# Altium footprint library EPC_2017Q3.pcblib: 23 footprints (part 1 of 2)
Each footprint in its own frame and in the unit in brackets; x right, y up, seen from the top. Pads: shape width x height; smd on the part's side, far side on the other; paste and mask are expansions set on the pad; w line width, h text height; cw(c..) or ccw(c..) is an arc to the next point about the centre after c.
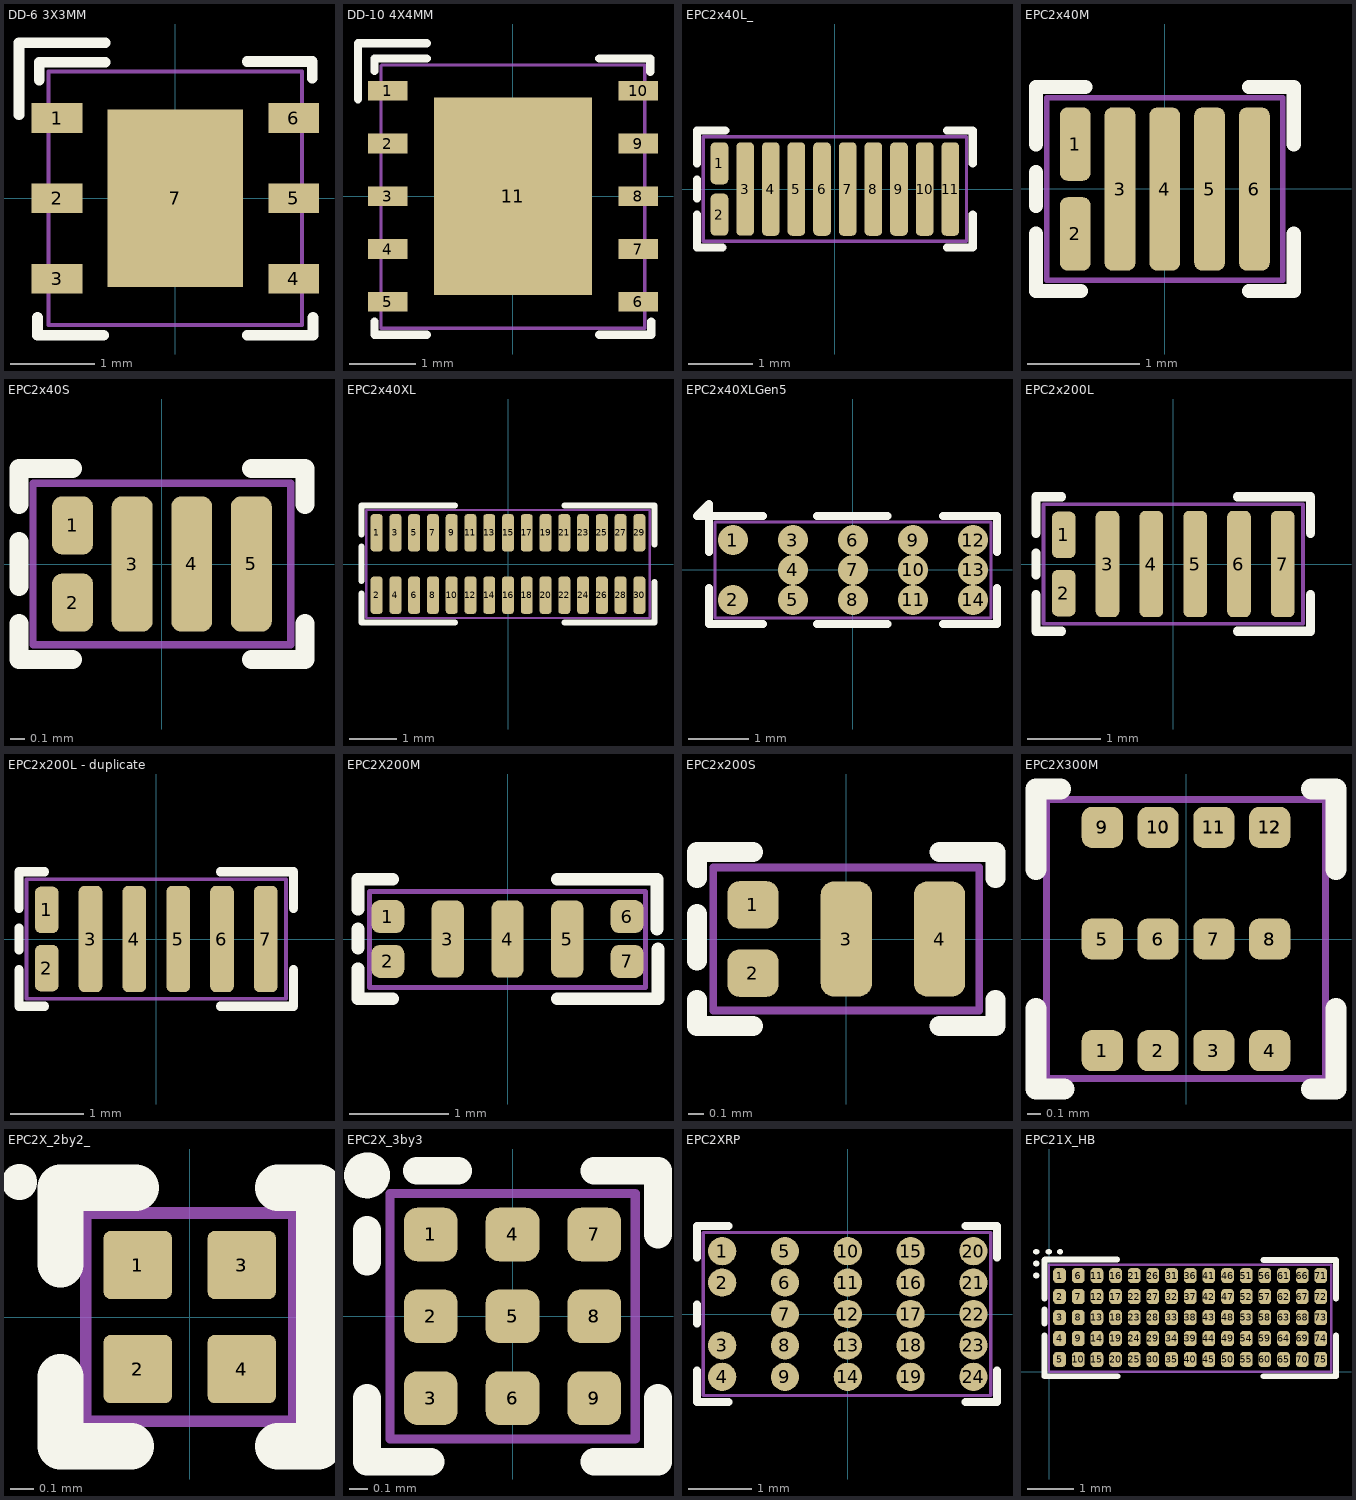
[diagram p0: the footprints below, top view; thin cyan lines are the x and y axes]

## DD-6 3X3MM [mm]
height 0.9
pads (7):
  rect 0.6x0.35 smd paste-0.025 mask+0.07: 1(-1.4,0.95) 2(-1.4,0) 3(-1.4,-0.95) 4(1.4,-0.95) 5(1.4,0) 6(1.4,0.95)
  rect 1.6x2.1 smd paste-0.1 mask+0.07: 7(0,0)
Top Overlay:
  lines w0.127: -1.85,0.99 -1.85,1.84 -0.83,1.84 ; -1.63,-1.41 -1.63,-1.62 -0.85,-1.62 ; -1.61,1.4 -1.61,1.61 -0.83,1.61 ; 0.85,-1.62 1.63,-1.62 1.63,-1.41 ; 0.85,1.62 1.62,1.62 1.62,1.42
Mechanical 13:
  lines w0.05: -1.5,-1.5 1.5,-1.5 1.5,1.5 -1.5,1.5 -1.5,-1.5
3D body: height 0.8, standoff 0.1, extent -1.5,-1.51 1.5,1.5

## DD-10 4X4MM [mm]
height 1
pads (11):
  rect 0.6x0.3 smd paste-0.025 mask+0.07: 1(-1.9,1.6) 2(-1.9,0.8) 3(-1.9,0) 4(-1.9,-0.8) 5(-1.9,-1.6) 6(1.9,-1.6) 7(1.9,-0.8) 8(1.9,0) 9(1.9,0.8) 10(1.9,1.6)
  rect 2.4x3 smd paste-0.1 mask+0.07: 11(0,0)
Top Overlay:
  lines w0.127: -2.35,1.47 -2.35,2.32 -1.31,2.32 ; -2.1,-1.9 -2.1,-2.1 -1.31,-2.1 ; -2.1,1.9 -2.1,2.09 -1.31,2.09 ; 1.31,-2.1 2.1,-2.1 2.1,-1.9 ; 1.31,2.09 2.08,2.09 2.08,1.89
Mechanical 13:
  lines w0.05: -2,-2 2,-2 2,1.99 -1.99,1.99 -2,1.98 -2,-2
3D body: height 0.9, standoff 0.1, extent -2,-2 2,2

## EPC2x40L_ [mm]
height 0.8
pads (22):
  rrect50% 0.275x0.655 smd paste-0.048 mask-0.275: 1(-1.8,0.401) 2(-1.8,-0.401)
  rrect50% 0.275x1.457 smd paste-0.048 mask-0.275: 3(-1.4,0) 4(-1,-0.001) 5(-0.6,-0.001) 6(-0.2,-0.001) 7(0.2,-0.001) 8(0.6,-0.001) 9(1,-0.001) 10(1.4,-0.001) 11(1.8,-0.001)
  oval 0.18x0.56 on Top Solder: ""(-1.8,-0.4) ""(-1.8,0.4)
  oval 0.18x1.362 on Top Solder: ""(-1.4,0) ""(-1,0) ""(-0.6,0) ""(-0.2,0) ""(0.2,0) ""(0.6,0) ""(1,0) ""(1.4,0) ""(1.8,0)
Top Overlay:
  lines w0.127: -2.15,-0.4 -2.15,-0.91 -1.75,-0.91 ; -2.15,-0.15 -2.15,0.15 ; -2.15,0.4 -2.15,0.91 -1.71,0.91 ; 1.75,-0.91 2.15,-0.91 2.15,-0.4 ; 1.75,0.91 2.15,0.91 2.15,0.4
Mechanical 13:
  lines w0.05: -2.052,-0.816 2.053,-0.816 2.053,0.816 -2.052,0.816 -2.052,-0.816
3D body: height 0.81, standoff 0.1, extent -2.052,-0.816 2.053,0.816

## EPC2x40M [mm]
height 0.8
pads (12):
  rrect50% 0.275x0.655 smd paste-0.048 mask-0.275: 1(-0.8,0.401) 2(-0.8,-0.401)
  rrect50% 0.275x1.457 smd paste-0.048 mask-0.275: 3(-0.4,0) 4(0,-0.001) 5(0.4,-0.001) 6(0.8,-0.001)
  oval 0.18x0.56 on Top Solder: ""(-0.8,-0.4) ""(-0.8,0.4)
  oval 0.18x1.362 on Top Solder: ""(-0.4,0) ""(0,0) ""(0.4,0) ""(0.8,0)
Top Overlay:
  lines w0.127: -1.15,-0.4 -1.15,-0.91 -0.75,-0.91 ; -1.15,-0.15 -1.15,0.15 ; -1.15,0.4 -1.15,0.91 -0.71,0.91 ; 0.751,-0.91 1.151,-0.91 1.151,-0.4 ; 0.751,0.91 1.151,0.91 1.151,0.4
Mechanical 13:
  lines w0.05: -1.052,-0.816 -1.052,0.816 1.054,0.816 1.054,-0.816 -1.052,-0.816
3D body: height 0.81, standoff 0.1, extent -1.052,-0.816 1.05,0.816

## EPC2x40S [mm]
height 0.8
pads (10):
  rrect50% 0.275x0.391 smd paste-0.048 mask-0.275: 1(-0.6,0.259) 2(-0.6,-0.259)
  rrect50% 0.275x0.909 smd paste-0.048 mask-0.275: 3(-0.2,0) 4(0.2,0) 5(0.6,0)
  oval 0.18x0.296 on Top Solder: ""(-0.6,-0.259) ""(-0.6,0.259)
  oval 0.18x0.814 on Top Solder: ""(-0.2,0) ""(0.2,0) ""(0.6,0)
Top Overlay:
  lines w0.127: -0.96,-0.4 -0.96,-0.64 -0.6,-0.64 ; -0.96,-0.15 -0.96,0.15 ; -0.96,0.4 -0.96,0.64 -0.6,0.64 ; 0.6,-0.64 0.96,-0.64 0.96,-0.4 ; 0.6,0.64 0.96,0.64 0.96,0.4
Mechanical 13:
  lines w0.05: -0.866,-0.543 0.866,-0.543 0.866,0.544 -0.866,0.544 -0.866,-0.543
3D body: height 0.81, standoff 0.1, extent -0.87,-0.55 0.87,0.55

## EPC2x40XL [mm] "Gen 4 XL Die"
height 0.8
pads (60):
  rrect50% 0.254x0.795 smd paste-0.037 mask-0.275: 1(-2.8,0.665) 2(-2.8,-0.665) 3(-2.4,0.665) 4(-2.4,-0.665) 5(-2,0.665) 6(-2,-0.665) 7(-1.6,0.665) 8(-1.6,-0.665) 9(-1.2,0.665) 10(-1.2,-0.665) 11(-0.8,0.665) 12(-0.8,-0.665) 13(-0.4,0.665) 14(-0.4,-0.665) 15(0,0.665) 16(0,-0.665) 17(0.4,0.665) 18(0.4,-0.665) 19(0.8,0.665) 20(0.8,-0.665) 21(1.2,0.665) 22(1.2,-0.665) 23(1.6,0.665) 24(1.6,-0.665) 25(2,0.665) 26(2,-0.665) 27(2.4,0.665) 28(2.4,-0.665) 29(2.8,0.665) 30(2.8,-0.665)
  oval 0.18x0.7 on Top Solder paste-0.18 mask+0: ""(-2.8,0.665) ""(-2.8,-0.665) ""(-2.4,0.665) ""(-2.4,-0.665) ""(-2,0.665) ""(-2,-0.665) ""(-1.6,0.665) ""(-1.6,-0.665) ""(-1.2,0.665) ""(-1.2,-0.665) ""(-0.8,0.665) ""(-0.8,-0.665) ""(-0.4,0.665) ""(-0.4,-0.665) ""(0,0.665) ""(0,-0.665) ""(0.4,0.665) ""(0.4,-0.665) ""(0.8,0.665) ""(0.8,-0.665) ""(1.2,0.665) ""(1.2,-0.665) ""(1.6,0.665) ""(1.6,-0.665) ""(2,0.665) ""(2,-0.665) ""(2.4,0.665) ""(2.4,-0.665) ""(2.8,0.665) ""(2.8,-0.665)
Top Overlay:
  lines w0.127: -3.125,-0.625 -3.125,-1.25 -1.125,-1.25 ; -3.125,-0.361 -3.125,0.375 ; -3.125,0.625 -3.125,1.25 -1.125,1.25 ; 1.2,-1.25 3.125,-1.25 3.125,-0.386 ; 1.2,1.25 3.125,1.25 3.125,0.414
Mechanical 13:
  lines w0.05: -3.025,-1.15 3.025,-1.15 3.025,1.15 -3.025,1.15 -3.025,-1.15
3D body: height 0.81, standoff 0.1, extent -3.025,-1.155 3.025,1.155

## EPC2x40XLGen5 [mm] "Gen 5 200V Die wide spacing"
height 0.8
pads (28):
  round 0.5 smd paste-0.25 mask-0.085: 1(-2,0.5) 2(-2,-0.5) 3(-1,0.5) 4(-1,0) 5(-1,-0.5) 6(0,0.5) 7(0,0) 8(0,-0.5) 9(1,0.5) 10(1,0) 11(1,-0.5) 12(2,0.5) 13(2,0) 14(2,-0.5)
  rrect40% 0.35x0.3 on Top Paste paste+0 mask-0.175: ""(-2,-0.5) ""(-2,0.5) ""(-1,-0.5) ""(-1,0) ""(-1,0.5) ""(0,-0.5) ""(0,0) ""(0,0.5) ""(1,-0.5) ""(1,0) ""(1,0.5) ""(2,-0.5) ""(2,0) ""(2,0.5)
Top Overlay:
  lines w0.127: -2.4,-0.3 -2.4,-0.9 -1.5,-0.9 ; -2.4,0.3 -2.4,1.1 -2.6,0.9 -1.5,0.9 ; -0.6,-0.9 0.575,-0.9 ; -0.6,0.9 0.575,0.9 ; 1.5,-0.9 2.4,-0.9 2.4,-0.3 ; 1.5,0.9 2.4,0.9 2.4,0.3
Mechanical 13:
  lines w0.05: -2.3,-0.8 -2.3,0.8 2.3,0.8 2.3,-0.8 -2.3,-0.8
3D body: height 0.81, standoff 0.1, extent -2.311,-0.803 2.3,0.804

## EPC2x200L [mm]
height 0.8
pads (14):
  rrect50% 0.325x0.635 smd paste-0.048 mask-0.325: 1(-1.5,0.4) 2(-1.5,-0.4)
  rrect50% 0.325x1.457 smd paste-0.048 mask-0.325: 3(-0.9,0) 4(-0.3,0) 5(0.3,0) 6(0.9,0) 7(1.5,0)
  oval 0.23x0.56 on Top Solder: ""(-1.5,-0.4) ""(-1.5,0.4)
  oval 0.23x1.362 on Top Solder: ""(-0.9,0) ""(-0.3,0) ""(0.3,0) ""(0.9,0) ""(1.5,0)
Top Overlay:
  lines w0.127: -1.88,-0.42 -1.88,-0.92 -1.53,-0.92 ; -1.88,-0.15 -1.88,0.15 ; -1.88,0.42 -1.88,0.92 -1.53,0.92 ; 0.88,-0.92 1.88,-0.92 1.88,-0.42 ; 0.88,0.92 1.88,0.92 1.88,0.42
Mechanical 13:
  lines w0.05: -1.777,-0.816 1.777,-0.816 1.777,0.816 -1.777,0.816 -1.777,-0.816
3D body: height 0.81, standoff 0.1, extent -1.775,-0.825 1.775,0.825

## EPC2x200L - duplicate [mm]
height 0.8
pads (14):
  rrect50% 0.325x0.635 smd paste-0.048 mask-0.325: 1(-1.5,0.4) 2(-1.5,-0.4)
  rrect50% 0.325x1.457 smd paste-0.048 mask-0.325: 3(-0.9,0) 4(-0.3,0) 5(0.3,0) 6(0.9,0) 7(1.5,0)
  oval 0.23x0.56 on Top Solder: ""(-1.5,-0.4) ""(-1.5,0.4)
  oval 0.23x1.362 on Top Solder: ""(-0.9,0) ""(-0.3,0) ""(0.3,0) ""(0.9,0) ""(1.5,0)
Top Overlay:
  lines w0.127: -1.88,-0.42 -1.88,-0.92 -1.53,-0.92 ; -1.88,-0.15 -1.88,0.15 ; -1.88,0.42 -1.88,0.92 -1.53,0.92 ; 0.88,-0.92 1.88,-0.92 1.88,-0.42 ; 0.88,0.92 1.88,0.92 1.88,0.42
Mechanical 13:
  lines w0.05: -1.777,-0.816 1.777,-0.816 1.777,0.816 -1.777,0.816 -1.777,-0.816
3D body: height 0.81, standoff 0.1, extent -1.775,-0.825 1.775,0.825

## EPC2X200M [mm]
height 0.8
pads (14):
  rrect50% 0.329x0.329 smd paste-0.048 mask-0.329: 1(-1.2,0.225) 2(-1.2,-0.225) 6(1.2,0.225) 7(1.2,-0.225)
  rrect50% 0.325x0.775 smd paste-0.048 mask-0.325: 3(-0.6,0) 4(0,0) 5(0.6,0)
  round 0.234 on Top Solder paste+0 mask+0: ""(-1.2,-0.225) ""(-1.2,0.225) ""(1.2,-0.225) ""(1.2,0.225)
  oval 0.23x0.68 on Top Solder: ""(-0.6,0) ""(0,0) ""(0.6,0)
Top Overlay:
  lines w0.127: -1.5,-0.3 -1.5,-0.6 -1.15,-0.6 ; -1.5,-0.09 -1.5,0.1 ; -1.5,0.3 -1.5,0.6 -1.15,0.6 ; 0.5,-0.6 1.5,-0.6 ; 0.5,0.6 1.5,0.6 1.5,0.1 ; 1.51,-0.6 1.51,-0.1
Mechanical 13:
  lines w0.05: -1.383,-0.485 1.383,-0.485 ; -1.383,-0.475 -1.383,0.475 1.383,0.475 1.383,-0.475
3D body: height 0.81, standoff 0.1, extent -1.37,-0.48 1.38,0.48

## EPC2x200S [mm]
height 0.8
pads (8):
  rrect50% 0.329x0.304 smd paste-0.048 mask-0.329: 1(-0.6,0.22) 2(-0.6,-0.22)
  rrect50% 0.329x0.738 smd paste-0.048 mask-0.329: 3(0,0) 4(0.6,0)
  round 0.234 on Top Solder paste+0 mask+0: ""(-0.6,-0.205) ""(-0.6,0.205)
  oval 0.234x0.643 on Top Solder paste+0 mask+0: ""(0,0)
  oval 0.234x0.643 on Top Solder: ""(0.6,0)
Top Overlay:
  lines w0.127: -0.96,-0.39 -0.96,-0.56 -0.6,-0.56 ; -0.96,-0.14 -0.96,0.16 ; -0.96,0.39 -0.96,0.56 -0.6,0.56 ; 0.6,-0.56 0.96,-0.56 0.96,-0.39 ; 0.6,0.56 0.96,0.56 0.96,0.39
Mechanical 13:
  lines w0.05: -0.855,-0.46 -0.855,0.46 0.855,0.46 0.855,-0.46 -0.855,-0.46
3D body: height 0.81, standoff 0.1, extent -0.85,-0.45 0.85,0.45

## EPC2X300M [mm] "Micro SMD 2mm x 2mm 12pin BGA"
height 0.6
pads (24):
  rrect50% 0.295x0.295 smd paste-0.048 mask+0: 1(-0.6,-0.8) 2(-0.2,-0.8) 3(0.2,-0.8) 4(0.6,-0.8) 5(-0.6,0) 6(-0.2,0) 7(0.2,0) 8(0.6,0) 9(-0.6,0.8) 10(-0.2,0.8) 11(0.2,0.8) 12(0.6,0.8)
  round 0.2 on Top Solder paste+0 mask+0: 1(-0.6,-0.8) 2(-0.2,-0.8) 3(0.2,-0.8) 4(0.6,-0.8) 5(-0.6,0) 6(-0.2,0) 7(0.2,0) 8(0.6,0) 9(-0.6,0.8) 10(-0.2,0.8) 11(0.2,0.8) 12(0.6,0.8)
Top Overlay:
  lines w0.152: -1.075,-0.5 -1.075,-1.075 -0.875,-1.075 ; -1.075,0.5 -1.075,1.075 -0.9,1.075 ; 0.9,-1.075 1.075,-1.075 1.075,-0.5 ; 0.9,1.075 1.075,1.075 1.075,0.5
Mechanical 13:
  lines w0.05: -1,-1 -1,1 1,1 1,-1 -1,-1
3D body: height 0.5, standoff 0.1, extent -0.975,-1 1.005,1

## EPC2X_2by2_ [mm]
pads (8):
  rrect20% 0.295x0.295 smd paste-0.048 mask+0: 1(-0.225,0.225) 2(-0.225,-0.225) 3(0.225,0.225) 4(0.225,-0.225)
  round 0.2 on Top Solder paste+0 mask+0: 1(-0.225,0.225) 2(-0.225,-0.225) 3(0.225,0.225) 4(0.225,-0.225)
Top Overlay:
  circle w0.152: c-0.738,0.584 r0.001
  lines w0.2: -0.559,-0.559 -0.559,-0.259 ; -0.559,0.229 -0.559,0.559 -0.233,0.559 ; -0.554,-0.559 -0.254,-0.559 ; 0.381,-0.559 0.556,-0.559 ; 0.381,0.559 0.559,0.559 0.559,-0.542
Mechanical 13:
  lines w0.05: -0.45,0.447 -0.447,0.45 ; -0.45,-0.45 0.45,-0.45 0.45,0.45 -0.45,0.45 -0.45,-0.45
3D body: height 0.81, standoff 0.17, extent -0.45,-0.45 0.45,0.45

## EPC2X_3by3 [mm]
pads (18):
  rrect50% 0.295x0.295 smd paste-0.048 mask+0: 1(-0.45,0.45) 2(-0.45,0) 3(-0.45,-0.45) 4(0,0.45) 5(0,0) 6(0,-0.45) 7(0.45,0.45) 8(0.45,0) 9(0.45,-0.45)
  round 0.2 on Top Solder paste+0 mask+0: 1(-0.45,0.45) 2(-0.45,0) 3(-0.45,-0.45) 4(0,0.45) 5(0,0) 6(0,-0.45) 7(0.45,0.45) 8(0.45,0) 9(0.45,-0.45)
Top Overlay:
  circle w0.152: c-0.8,0.775 r0.05
  lines w0.152: -0.8,-0.45 -0.8,-0.8 -0.45,-0.8 ; -0.8,0.3 -0.8,0.475 ; -0.525,0.8 -0.3,0.8 ; 0.45,-0.8 0.8,-0.8 0.8,-0.45 ; 0.45,0.8 0.8,0.8 0.8,0.45
Mechanical 13:
  lines w0.05: -0.675,-0.675 0.675,-0.675 0.675,0.675 -0.675,0.675 -0.675,-0.675
3D body: height 0.81, standoff 0.17, extent -0.675,-0.675 0.675,0.675

## EPC2XRP [mm]
height 0.8
pads (24):
  round 0.45 smd paste-0.06 mask-0.05: 1(-2,1) 2(-2,0.5) 3(-2,-0.5) 4(-2,-1) 5(-1,1) 6(-1,0.5) 7(-1,0) 8(-1,-0.5) 9(-1,-1) 10(0,1) 11(0,0.5) 12(0,0) 13(0,-0.5) 14(0,-1) 15(1,1) 16(1,0.5) 17(1,0) 18(1,-0.5) 19(1,-1) 20(2,1) 21(2,0.5) 22(2,0) 23(2,-0.5) 24(2,-1)
Top Overlay:
  lines w0.127: -2.4,-0.9 -2.4,-1.4 -1.9,-1.4 ; -2.4,-0.15 -2.4,0.15 ; -2.4,0.9 -2.4,1.4 -1.9,1.4 ; 1.875,-1.4 2.375,-1.4 2.375,-0.9 ; 1.875,1.4 2.375,1.4 2.375,0.9
Mechanical 13:
  lines w0.05: -2.3,-1.3 -2.3,1.3 2.275,1.3 2.275,-1.3 -2.3,-1.3
3D body: height 0.83, standoff 0.28, extent -2.3,-1.3 2.275,1.3

## EPC21X_HB [mm]
height 0.8
pads (75):
  rrect60% 0.273x0.323 smd paste-0.046 mask-0.046: 1(0.225,2.06) 2(0.225,1.61) 3(0.225,1.16) 4(0.225,0.71) 5(0.225,0.26) 6(0.625,2.06) 7(0.625,1.61) 8(0.625,1.16) 9(0.625,0.71) 10(0.625,0.26) 11(1.025,2.06) 12(1.025,1.61) 13(1.025,1.16) 14(1.025,0.71) 15(1.025,0.26) 16(1.425,2.06) 17(1.425,1.61) 18(1.425,1.16) 19(1.425,0.71) 20(1.425,0.26) 21(1.825,2.06) 22(1.825,1.61) 23(1.825,1.16) 24(1.825,0.71) 25(1.825,0.26) 26(2.225,2.06) 27(2.225,1.61) 28(2.225,1.16) 29(2.225,0.71) 30(2.225,0.26) 31(2.625,2.06) 32(2.625,1.61) 33(2.625,1.16) 34(2.625,0.71) 35(2.625,0.26) 36(3.025,2.06) 37(3.025,1.61) 38(3.025,1.16) 39(3.025,0.71) 40(3.025,0.26) 41(3.425,2.06) 42(3.425,1.61) 43(3.425,1.16) 44(3.425,0.71) 45(3.425,0.26) 46(3.825,2.06) 47(3.825,1.61) 48(3.825,1.16) 49(3.825,0.71) 50(3.825,0.26) 51(4.225,2.06) 52(4.225,1.61) 53(4.225,1.16) 54(4.225,0.71) 55(4.225,0.26) 56(4.625,2.06) 57(4.625,1.61) 58(4.625,1.16) 59(4.625,0.71) 60(4.625,0.26) 61(5.025,2.06) 62(5.025,1.61) 63(5.025,1.16) 64(5.025,0.71) 65(5.025,0.26) 66(5.425,2.06) 67(5.425,1.61) 68(5.425,1.16) 69(5.425,0.71) 70(5.425,0.26) 71(5.825,2.06) 72(5.825,1.61) 73(5.825,1.16) 74(5.825,0.71) 75(5.825,0.26)
Top Overlay:
  lines w0.127: -0.28,2.06 -0.27,2.06 ; -0.28,2.32 -0.27,2.32 ; -0.28,2.57 -0.27,2.57 ; -0.1,0.77 -0.1,-0.1 1.47,-0.1 ; -0.1,1.03 -0.1,1.33 ; -0.1,1.57 -0.1,2.39 ; -0.09,2.4 1.46,2.4 ; -0.01,2.57 0,2.57 ; 0.23,2.57 0.24,2.57 ; 4.6,-0.1 6.15,-0.1 6.15,0.77 ; 4.6,2.39 6.15,2.39 6.15,1.57
Mechanical 13:
  lines w0.05: 6.04,0 0,0 0,2.29 6.05,2.29 6.05,0
3D body: height 0.81, standoff 0.1, extent 0,0 6.04,2.29